# EAGLE library part MPU-6050 (library debauer_ics)
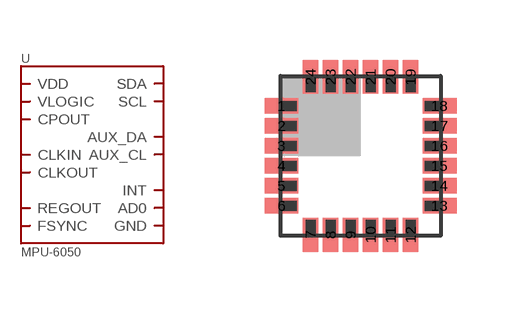
[diagram p46: symbol with the pads of QFN.24.4X4; footprint QFN.24.4X4]

Designator prefix -

## MPU-6050  [QFN.24.4X4]
1  CLKIN
6  AUX_DA
7  AUX_CL
8  VLOGIC
9  AD0
10  REGOUT
11  FSYNC
12  INT
13  VDD
18  GND
20  CPOUT
22  CLKOUT
23  SCL
24  SDA

## Footprint QFN.24.4X4 (pad centres in mm)
smd 0.85 x 0.38: 1 -1.975,1.25; 2 -1.975,0.75; 3 -1.975,0.25; 4 -1.975,-0.25; 5 -1.975,-0.75; 6 -1.975,-1.25; 13 1.975,-1.25; 14 1.975,-0.75; 15 1.975,-0.25; 16 1.975,0.25; 17 1.975,0.75; 18 1.975,1.25
smd 0.38 x 0.85: 7 -1.25,-1.975; 8 -0.75,-1.975; 9 -0.25,-1.975; 10 0.25,-1.975; 11 0.75,-1.975; 12 1.25,-1.975; 19 1.25,1.975; 20 0.75,1.975; 21 0.25,1.975; 22 -0.25,1.975; 23 -0.75,1.975; 24 -1.25,1.975